# EAGLE library part MAX9944 (library Soil Power Sensor)
High-Voltage, Precision, Low-Power Op Amps
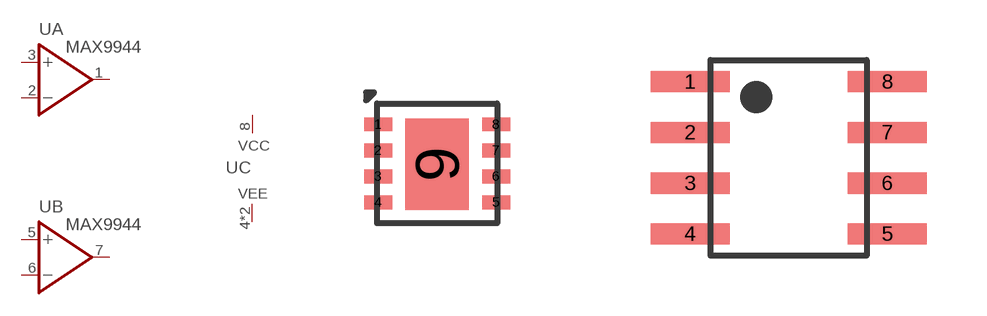
[diagram p2: symbol with the pads of TDFN300X300X75-8N; footprints TDFN300X300X75-8N, SOIC127P600X155-8N]

Designator prefix U; gates A=OPAMP B=OPAMP C=VCCVEE

## MAX9944ATA (AUTHOR: John Madden <jmadden173@pm.me>; DATE_CREATED: 2023-04-05; DATE_MODIFIED: 2023-04-05; MFC: Analog Devices; MPN: MAX9944ATA+T; QTY: 1; REF: https://www.analog.com/en/products/max9944.html#product-overview)  [TDFN300X300X75-8N]
1  A:OUT  out
2  A:-IN  in
3  A:+IN  in
4  C:VEE  pwr
5  B:+IN  in
6  B:-IN  in
7  B:OUT  out
8  C:VCC  pwr
9  C:VEE  pwr

## MAX9944ASA (AUTHOR: John Madden <jmadden173@pm.me>; DATE_CREATED: 2023-04-05; DATE_MODIFIED: 2023-04-05; MFC: Analog Devices; MPN: MAX9944ASA+T; QTY: 1; REF: https://www.analog.com/en/products/max9944.html#product-overview)  [SOIC127P600X155-8N]
1  A:OUT  out
2  A:-IN  in
3  A:+IN  in
4  C:VEE  pwr
5  B:+IN  in
6  B:-IN  in
7  B:OUT  out
8  C:VCC  pwr

## Footprint TDFN300X300X75-8N (pad centres in mm)
21-0137
smd 0.7 x 0.35: 1 -1.475,0.995; 2 -1.475,0.345; 3 -1.475,-0.305; 4 -1.475,-0.955; 5 1.475,-0.955; 6 1.475,-0.305; 7 1.475,0.345; 8 1.475,0.995
smd 1.58 x 2.3: 9 0,-0.005

## Footprint SOIC127P600X155-8N (pad centres in mm)
21-0041
smd 1.98 x 0.53: 1 -2.465,1.905; 2 -2.465,0.635; 3 -2.465,-0.635; 4 -2.465,-1.905; 5 2.465,-1.905; 6 2.465,-0.635; 7 2.465,0.635; 8 2.465,1.905